# EAGLE library part WE-LAN-10G_749050010U (library Wurth_Elektronik_EMC_COMPONENTS_rev16c)
WE-LAN LAN Transformer 10/100 Base T - Compliant with IEEE 802.3, IEEE 802.3af and IEEE 802.3at standards - SMT -- Ethernet -- Power over Ethernet -- 1 Gigabit Ethernet -- Compliant with most IC's for ethernet applications like Intel, AMD, Globespan and Realtek -- Hub, Router, Switch <http://katalog.we-online.de/media/images/v2/Family_WE-LAN.jpg> Details see: http://katalog.we-online.de/en/pbs/WE-LAN/7490100111A 2016 (C) Würth Elektronik
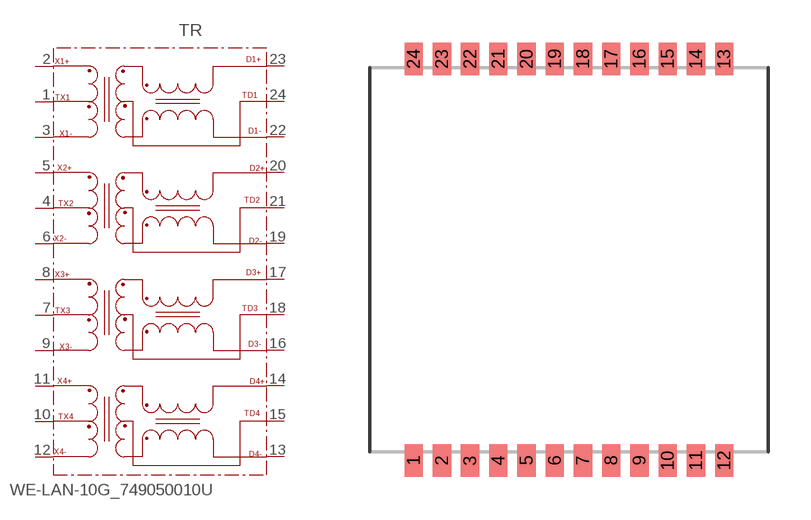
[diagram p229: symbol with the pads of 749050010U; footprint 749050010U]

Designator prefix TR

## WE-LAN-10G_749050010U  [749050010U]
1  TX1
2  X1+
3  X1-
4  TX2
5  X2+
6  X2-
7  TX3
8  X3+
9  X3-
10  TX4
11  X4+
12  X4-
13  D4-
14  D4+
15  TD4
16  D3-
17  D3+
18  TD3
19  D2-
20  D2+
21  TD2
22  D1-
23  D1+
24  TD1

## Footprint 749050010U (pad centres in mm)
smd 0.64 x 1.14: 1 -5.445,-7.05; 2 -4.455,-7.05; 3 -3.465,-7.05; 4 -2.475,-7.05; 5 -1.485,-7.05; 6 -0.495,-7.05; 7 0.495,-7.05; 8 1.485,-7.05; 9 2.475,-7.05; 10 3.465,-7.05; 11 4.455,-7.05; 12 5.445,-7.05; 13 5.445,7.05; 14 4.455,7.05; 15 3.465,7.05; 16 2.475,7.05; 17 1.485,7.05; 18 0.495,7.05; 19 -0.495,7.05; 20 -1.485,7.05; 21 -2.475,7.05; 22 -3.465,7.05; 23 -4.455,7.05; 24 -5.445,7.05